# Altium footprint library PCB - CHOKE - WURTH WE-LF.PCBLIB: 1 footprints
Each footprint in its own frame and in the unit in brackets; x right, y up, seen from the top. Pads: shape width x height; smd on the part's side, far side on the other; paste and mask are expansions set on the pad; w line width, h text height; cw(c..) or ccw(c..) is an arc to the next point about the centre after c.
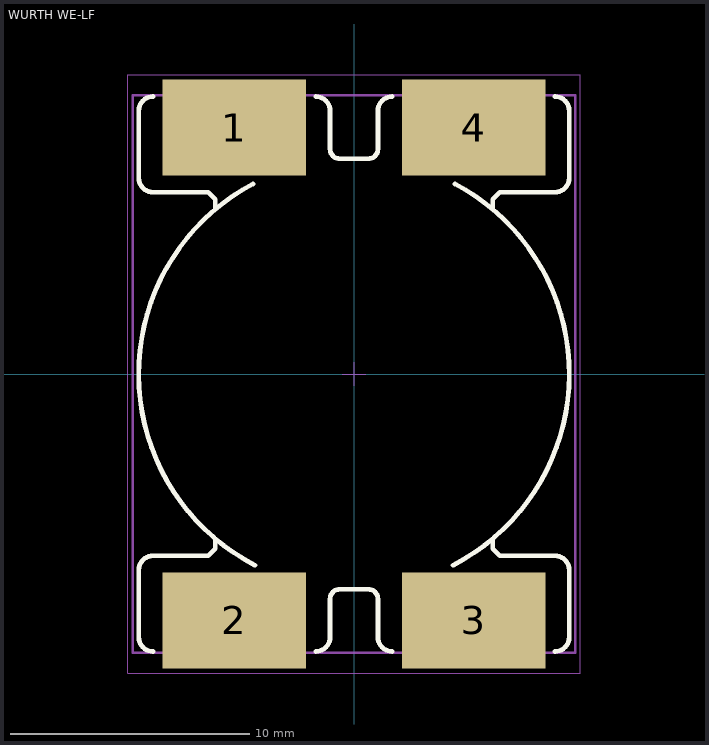
[diagram p0: the footprint, top view; thin cyan lines are the x and y axes]

## WURTH WE-LF [mm] "SMD Common Mode Power Line Choke, 4 leads"
height 11.5
pads (4):
  rect 6x4 smd: 1(-5,10.3) 2(-5,-10.3) 3(5,-10.3) 4(5,10.3)
Top Overlay:
  lines w0.2: -8.4,-11.6 cw(c-8.4,-11) -9,-11 -9,-8.2 cw(c-8.4,-8.2) -8.4,-7.6 -6.1,-7.6 -5.8,-7.3 -5.8,-6.9 ; -8.4,11.6 ccw(c-8.4,11) -9,11 -9,8.2 ccw(c-8.4,8.2) -8.4,7.6 -6.1,7.6 -5.8,7.3 -5.8,6.9 ; -4.225,7.947 ccw(c0,0) -4.143,-7.99 ; -1.6,-11.6 ccw(c-1.6,-11) -1,-11 -1,-9.4 cw(c-0.6,-9.4) -0.6,-9 0.6,-9 cw(c0.6,-9.4) 1,-9.4 1,-11 ccw(c1.6,-11) 1.6,-11.6 ; -1.6,11.6 cw(c-1.6,11) -1,11 -1,9.4 ccw(c-0.6,9.4) -0.6,9 0.6,9 ccw(c0.6,9.4) 1,9.4 1,11 cw(c1.6,11) 1.6,11.6 ; 4.143,-7.99 ccw(c0,0) 4.225,7.947 ; 5.8,-6.9 5.8,-7.3 6.1,-7.6 8.4,-7.6 cw(c8.4,-8.2) 9,-8.2 9,-11 cw(c8.4,-11) 8.4,-11.6 ; 5.8,6.9 5.8,7.3 6.1,7.6 8.4,7.6 ccw(c8.4,8.2) 9,8.2 9,11 ccw(c8.4,11) 8.4,11.6
Top 3D Body:
  lines w0.1: -9.25,-11.65 -9.25,11.65 9.25,11.65 9.25,-11.65 -9.25,-11.65
Top Assembly:
  lines w0.05: -0.5,0 0.5,0 ; 0,-0.5 0,0.5
  lines w0.1: -9.25,-11.65 9.25,-11.65 9.25,11.65 -9.25,11.65 -9.25,-11.65
Top Courtyard:
  lines w0.05: -9.45,-12.5 -9.45,12.5 9.45,12.5 9.45,-12.5 -9.45,-12.5
3D body "744663xxx_SH.stp": height 11.05, standoff 0, extent -9,-12.275 9,12.275